# EAGLE library part PIC16F887 (library Webmaster442)
PIC16F887 DIL package
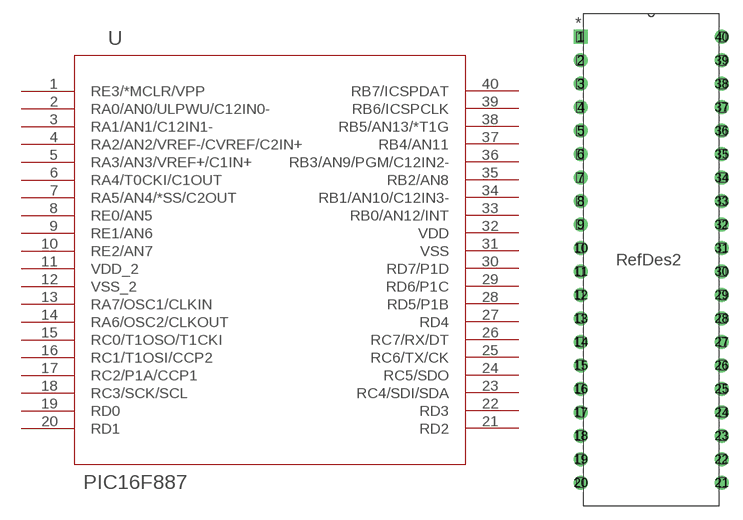
[diagram p0: symbol with the pads of PDIP40_600MC; footprint PDIP40_600MC]

Designator prefix -

## PIC16F887  [PDIP40_600MC]
1  RE3/*MCLR/VPP  pas
2  RA0/AN0/ULPWU/C12IN0-  pas
3  RA1/AN1/C12IN1-  pas
4  RA2/AN2/VREF-/CVREF/C2IN+  pas
5  RA3/AN3/VREF+/C1IN+  pas
6  RA4/T0CKI/C1OUT  pas
7  RA5/AN4/*SS/C2OUT  pas
8  RE0/AN5  pas
9  RE1/AN6  pas
10  RE2/AN7  pas
11  VDD_2  pas
12  VSS_2  pas
13  RA7/OSC1/CLKIN  pas
14  RA6/OSC2/CLKOUT  pas
15  RC0/T1OSO/T1CKI  pas
16  RC1/T1OSI/CCP2  pas
17  RC2/P1A/CCP1  pas
18  RC3/SCK/SCL  pas
19  RD0  pas
20  RD1  pas
21  RD2  pas
22  RD3  pas
23  RC4/SDI/SDA  pas
24  RC5/SDO  pas
25  RC6/TX/CK  pas
26  RC7/RX/DT  pas
27  RD4  pas
28  RD5/P1B  pas
29  RD6/P1C  pas
30  RD7/P1D  pas
31  VSS  pas
32  VDD  pas
33  RB0/AN12/INT  pas
34  RB1/AN10/C12IN3-  pas
35  RB2/AN8  pas
36  RB3/AN9/PGM/C12IN2-  pas
37  RB4/AN11  pas
38  RB5/AN13/*T1G  pas
39  RB6/ICSPCLK  pas
40  RB7/ICSPDAT  pas

## Footprint PDIP40_600MC (pad centres in mm)
drill 0.991 square: 1 -15.24,48.26
drill 0.991: 2 -15.24,45.72; 3 -15.24,43.18; 4 -15.24,40.64; 5 -15.24,38.1; 6 -15.24,35.56; 7 -15.24,33.02; 8 -15.24,30.48; 9 -15.24,27.94; 10 -15.24,25.4; 11 -15.24,22.86; 12 -15.24,20.32; 13 -15.24,17.78; 14 -15.24,15.24; 15 -15.24,12.7; 16 -15.24,10.16; 17 -15.24,7.62; 18 -15.24,5.08; 19 -15.24,2.54; 20 -15.24,0; 21 0,0; 22 0,2.54; 23 0,5.08; 24 0,7.62; 25 0,10.16; 26 0,12.7; 27 0,15.24; 28 0,17.78; 29 0,20.32; 30 0,22.86; 31 0,25.4; 32 0,27.94; 33 0,30.48; 34 0,33.02; 35 0,35.56; 36 0,38.1; 37 0,40.64; 38 0,43.18; 39 0,45.72; 40 0,48.26